# Altium integrated library BOJIT-Altium.IntLib: 12 symbols
Pins are listed as number, name and electrical type; pins without a type are passive.

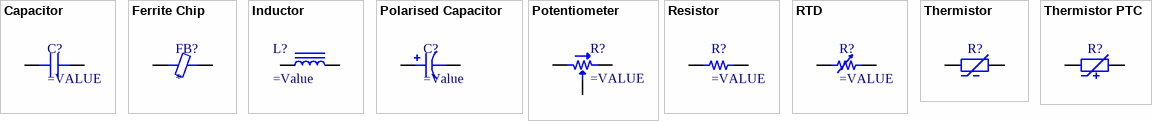
[diagram p0: symbols Capacitor to Thermistor PTC]

## Capacitor
designator C?
SMT Capacitor
footprint CAP 0201_0603 (Chip Capacitor, 2-Leads, Body 0.60x0.30mm, IPC Medium Density)
footprint CAP 0201_0603 RF (Chip Capacitor, 2-Leads, Body 0.60x0.30mm, IPC High Density)
footprint CAP 0402_1005 (Chip Capacitor, 2-Leads, Body 1.02x0.51mm, IPC Medium Density)
footprint CAP 0402_1005 RF (Chip Capacitor, 2-Leads, Body 1.02x0.51mm, IPC High Density)
footprint CAP 0603_1608 (Chip Capacitor, 2-Leads, Body 1.60x0.80mm, IPC Medium Density)
footprint CAP 0603_1608 RF (Chip Capacitor, 2-Leads, Body 1.60x0.80mm, IPC High Density)
footprint CAP 0805_2012 (Chip Capacitor, 2-Leads, Body 2.00x1.20mm, IPC Medium Density)
footprint CAP 0805_2012 RF (Chip Capacitor, 2-Leads, Body 2.00x1.20mm, IPC High Density)
footprint CAP 01005_0402 (Chip Capacitor, 2-Leads, Body 0.30x0.15mm, IPC Medium Density)
footprint CAP 1206_3216 (Chip Capacitor, 2-Leads, Body 3.25x1.60mm, IPC Medium Density)
footprint CAP 1206_3216 - 0.8MM (Chip Capacitor, 2-Leads, Body 3.25x1.60mm, IPC Medium Density)
footprint CAP 1206_3216 - 1.0MM (Chip Capacitor, 2-Leads, Body 3.25x1.60mm, IPC Medium Density)
footprint CAP 1206_3216 - 1.2MM (Chip Capacitor, 2-Leads, Body 3.25x1.60mm, IPC Medium Density)
footprint CAP 1206_3216 - 1.8MM (Chip Capacitor, 2-Leads, Body 3.25x1.60mm, IPC Medium Density)
footprint CAP 1210_3225 - 1.0MM (Chip Capacitor, 2-Leads, Body 3.20x2.50mm, IPC Medium Density)
footprint CAP 1210_3225 - 1.2MM (Chip Capacitor, 2-Leads, Body 3.20x2.50mm, IPC Medium Density)
footprint CAP 1206_3216 - 1.0MM (Chip Capacitor, 2-Leads, Body 3.25x1.60mm, IPC Medium Density)
footprint CAP 1210_3225 - 1.4MM (Chip Capacitor, 2-Leads, Body 3.20x2.50mm, IPC Medium Density)
footprint CAP 1210_3225 - 1.6MM (Chip Capacitor, 2-Leads, Body 3.20x2.50mm, IPC Medium Density)
footprint CAP 1210_3225 - 1.8MM (Chip Capacitor, 2-Leads, Body 3.20x2.50mm, IPC Medium Density)
footprint CAP 1210_3225 - 2.0MM (Chip Capacitor, 2-Leads, Body 3.20x2.50mm, IPC Medium Density)
footprint CAP 1210_3225 - 2.2MM (Chip Capacitor, 2-Leads, Body 3.20x2.50mm, IPC Medium Density)
footprint CAP 1210_3225 - 2.5MM (Chip Capacitor, 2-Leads, Body 3.20x2.50mm, IPC Medium Density)
footprint CAP 1210_3225 - 2.8MM (Chip Capacitor, 2-Leads, Body 3.20x2.50mm, IPC Medium Density)
footprint CAP 1812_4532 2.55MM (Chip Capacitor, 2-Leads, Body 4.50x3.20mm, IPC Medium Density)
footprint CAP FILM 0603_1608 (Chip Capacitor, 2-Leads, Body 1.60x0.80mm, IPC Medium Density)
footprint CAP FILM 0805 (J2, Film Capacitor PPS , 2-Leads, Body 2.00x1.25mm, IPC Medium Density)
footprint CAP FILM 1206 (H1, Film Capacitor PPS, 2-Leads, Body 3.20x1.60mm, IPC Medium Density)
footprint CAP FILM 1210 (G2, Film Capacitor PPS, 2-Leads, Body 3.20x2.50mm, IPC Medium Density)
footprint CAP FILM 2416 (D1, Film Capacitor PPS, 2-Leads, Body 6.00x4.10mm, IPC Medium Density)
pins: 1, 2

## Ferrite Chip
designator FB?
SMT Ferrite Chip
footprint FER 0201_0603 (Chip Inductor, 2-Leads, Body 0.60x0.30mm, IPC Medium Density)
footprint FER 0402_1005 (Chip Ferrite, 2-Leads, Body 1.02x0.51mm, IPC Medium Density)
footprint FER 0603_1608 (Chip Ferrite, 2-Leads, Body 1.60x0.80mm, IPC Medium Density)
footprint FER 0805_2012 (Chip Ferrite, 2-Leads, Body 2.00x1.20mm, IPC Medium Density)
footprint FER 1206_3216 (Chip Ferrite, 2-Leads, Body 3.20x1.60mm, IPC Medium Density)
footprint FER 1806_4516 (Chip Ferrite, 2-Leads, Body 4.50x1.60mm, IPC Medium Density)
pins: 1, 2

## Inductor
designator L?
SMT Inductor
footprint IND 0201_0603 (Inductor, 2-Leads, Body 0.60x0.30mm, IPC Medium Density)
footprint IND 0402_1005 (Inductor, 2-Leads, Body 1.02x0.51mm, IPC Medium Density)
footprint IND 0402_1005 RF WW (Chip Inductor, 2-Leads, Body 1.00x0.50mm, IPC High Density)
footprint IND 0603_1608 RF WW (Chip Inductor, 2-Leads, Body 1.65x0.99mm, IPC Medium Density)
footprint IND 0806_2016 (Chip Capacitor, 2-Leads, Body 2.00x1.20mm, IPC Medium Density)
footprint IND 1008_2520 (Chip Inductance, 2-leads, Body 2.5x2.1mm, IPC Medium Density)
pins: 1, 2

## Polarised Capacitor
designator C?
SMT Polarised Capacitor
footprint CAP ALSMD ELEC 4.3MM H5.8MM (Aluminum SMD Electrolytic Capacitor, 4.30mm Land Size, 4.00mm Diameter, 5.80mm Height, 4.60mm Maximum Leads Span)
footprint CAP ALSMD ELEC 5.3MM H5.65MM (Aluminum SMD Electrolytic Capacitor, 5.30mm Land Size, 5.00mm Diameter, 5.65mm Height, 5.50mm Maximum Leads Span)
footprint CAP ALSMD ELEC 6.6MM H8.2MM LEADSPANMAX7.8MM (Aluminum SMD Electrolytic Capacitor, 6.60mm Land Size, 6.30mm Diameter, 8.20mm Height, 7.80mm Maximum Leads Span)
footprint CAP ALSMD ELEC 8.3MM H6.5MM LEADSPANMAX9.5MM (Aluminum SMD Electrolytic Capacitor, 8.30mm Land Size, 8.00mm Diameter, 6.50mm Height, 9.50mm Maximum Leads Span)
footprint CAP ALSMD ELEC 10.3MM H14.5MM (Aluminum SMD Electrolytic Capacitor, 10.30mm Land Size, 10.00mm Diameter, 14.50mm Height, 10.90mm Maximum Leads Span)
footprint CAP ALSMD ELEC 13MM H16.5MM (Aluminum SMD Electrolytic Capacitor, 13.00mm Land Size, 12.50mm Diameter, 16.50mm Height, 13.70mm Maximum Leads Span)
footprint CAP ALSMD ELEC 13.6MM H16.5MM (Aluminum SMD Electrolytic Capacitor, 13.60mm Land Size, 12.50mm Diameter, 16.50mm Height, 14.60mm Maximum Leads Span)
footprint CAP ALSMD ELEC 16MM H17.5MM (Aluminum SMD Electrolytic Capacitor, 16.00mm Land Size, 16.00mm Diameter, 17.50mm Height, 18.60mm Maximum Leads Span)
footprint CAP AL TH D8 L3.5 H12.5 (8MM Diameter, 3.5MM Lead Spacing Aluminium Capacitor)
footprint CAP AL TH D10 L5 H14.5 (10MM Diameter, 5MM Lead Spacing Aluminium Capacitor)
footprint CAP AL TH D10 L5 H22 (10MM Diameter, 5MM Lead Spacing Aluminium Capacitor)
footprint CAP AL TH D12.5 L5 H15 (12.5MM Diameter, 5MM Lead Spacing Aluminium Capacitor)
footprint CAP AL TH D12.5 L5 H26.5 (12.5MM Diameter, 5MM Lead Spacing Aluminium Capacitor)
footprint CAP AL TH D16 L7.5 H20 (16MM Diameter, 7.5MM Lead Spacing Aluminium Capacitor)
footprint CAP AL TH D16 L7.5 H27 (16MM Diameter, 7.5MM Lead Spacing Aluminium Capacitor)
footprint CAP AL TH D22 L10 H14.5 (16MM Diameter, 7.5MM Lead Spacing Aluminium Capacitor)
footprint CAP AL TH D22 L10 H43 (16MM Diameter, 7.5MM Lead Spacing Aluminium Capacitor)
footprint CAP AL TH D25 L12.5 H42 (16MM Diameter, 7.5MM Lead Spacing Aluminium Capacitor)
footprint CAP POL 1206_3216 (Molded Capacitor, 2-Leads, Body 3.20x1.6mm, IPC Medium Density)
footprint CAP POL 1411_3528 (Molded Capacitor, 2-Leads, Body 3.50x2.80mm, IPC Medium Density)
footprint CAP POL 2917_7343 (Molded Capacitor, 2-Leads, Body 7.30x4.30mm, IPC Medium Density)
pins: 1, 2

## Potentiometer
designator R?
Potentiometer
footprint POT BOURNS TRIMPOT 3302 (Bourns Trimpot 3302 - Open Frame 2.75mm x 2.20mm x 1.05mm)
footprint POT BOURNS TRIMPOT TC33 (Bourns Trimpot TC33X-1 - Open Frame 3mm x 3.8mm x 1.2mm)
footprint POT MODEL91A
footprint POT Murata PVA2 (Murata PVA2 2.75mm x 2.20mm x 0.80mm)
footprint POT Panasonic EVM (Panasonic EVM3Y 3.45mm x 3.10mm x 1.55mm)
footprint POT PANASONIC EVM2W (Panasonic EVM2W 2.75mm x 2.20mm x 1.05mm)
pins: 1, 2, 3

## Resistor
designator R?
SMT Resistor
footprint RES 0201_0603 (Chip Resistor, 2-Leads, Body 0.60x0.30mm, IPC Medium Density)
footprint RES 0402_1005 (Chip Resistor, 2-Leads, Body 1.0x0.5mm, IPC Medium Density)
footprint RES 0402_1005 RF (Chip Resistor, 2-Leads, Body 1.0x0.5mm, IPC High Density)
footprint RES 0603_1608 (Chip Resistor, 2-Leads, Body 1.60x0.80mm, IPC Medium Density)
footprint RES 0603_1608 RF (Chip Resistor, 2-Leads, Body 1.60x0.80mm, IPC High Density)
footprint RES 0805_2012 (Chip Resistor, 2-Leads, Body 2.00x1.25mm, IPC Medium Density)
footprint RES 0805_2012 RF (Chip Resistor, 2-Leads, Body 2.00x1.25mm, IPC High Density)
footprint RES 1206_3216 (Chip Resistor, 2-Leads, Body 3.13x1.55mm, IPC Medium Density)
footprint RES 1206_3216 RF (Chip Resistor, 2-Leads, Body 3.13x1.55mm, IPC High Density)
footprint RES 1210_3225 (Chip Resistor, 2-Leads, Body 3.1x2.6mm, IPC Medium Density)
footprint RES 2512_6432 (Chip Resistor, 2-Leads, Body 6.30x3.15mm, IPC Medium Density)
pins: 1, 2

## RTD
designator R?
SMT Resistor
footprint RTD 0603_1608 (1 kOhms RTD Platinum ±0.3% ±3850ppm/°C -50°C ~ 150°C, 2-Leads, Body 1.70x0.90mm, IPC Medium Density)
footprint RTD 0805_2012 (1 kOhms RTD Platinum ±0.3% ±3850ppm/°C -50°C ~ 130°C, 2-Leads, Body 2.30x1.40mm, IPC Medium Density)
footprint RTD 1206_3216 (100 Ohms RTD Platinum ±0.3% ±3850ppm/°C -50°C ~ 130°C, 2-Leads, Body 3.20x1.60mm, IPC Medium Density)
pins: 1, 2

## Thermistor
designator R?
SMT Resistor
footprint NTC 0201_0603 (Chip Thermisistor, 2-Leads, Body 0.60x0.30mm, IPC Medium Density)
footprint NTC 0402_1005 (Chip Thermistor, 2-Leads, Body 1.00x0.50mm, IPC Medium Density)
footprint NTC 0603_1608 (NTC Thermistor, 2-Leads, Body 1.60x0.80mm, IPC Medium Density)
footprint NTC 0805_2012 (Chip Thermistor, 2-Leads, Body 2.00x1.25mm, IPC Medium Density)
pins: 1, 2

## Thermistor PTC
designator R?
SMT Resistor
footprint PTC 0402_1005 (Chip Thermistor, 2-Leads, Body 1.02x0.51mm, IPC Medium Density)
footprint PTC 0603_1608 (Chip Thermistor, 2-Leads, Body 1.60x0.80mm, IPC Medium Density)
pins: 1, 2


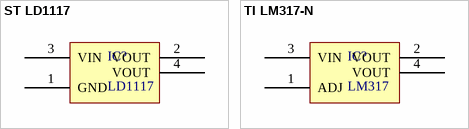
[diagram p1: symbols ST LD1117 to TI LM317-N]

## ST LD1117
designator IC?, comment LD1117
Wide Temperature Three-Pin Adjustable Regulator
footprint SOT-223 (SOT223, 4-Leads, Body 6.50x7.00mm (avg), Pitch 2.30mm, IPC Medium Density)
pins: 1 GND, 2 VOUT, 3 VIN, 4 VOUT

## TI LM317-N
designator IC?, comment LM317
Wide Temperature Three-Pin Adjustable Regulator
footprint SOT-223 (SOT223, 4-Leads, Body 6.50x7.00mm (avg), Pitch 2.30mm, IPC Medium Density)
pins: 1 ADJ, 2 VOUT, 3 VIN, 4 VOUT


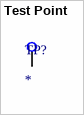
[diagram p2: symbol Test Point]

## Test Point
designator TP?
footprint TP-SMD-50mil (50 mil diameter SMD test point)
footprint TP-SMD-100mil (100 mil diameter SMD test point)
footprint TP-SMD-200mil (200 mil diameter SMD test point)
footprint TP-TH-80mil (80 mil pad, 30 mil hole:  pogo pin test point)
footprint TP-TH-100mil-Keystone (100 mil pad, 40 mil hole:  pogo pin test point)
pins: 1 TP